# EAGLE library part HEADER-FE-3X8 (library TEABOX-LIB)
FEMALE HEADER
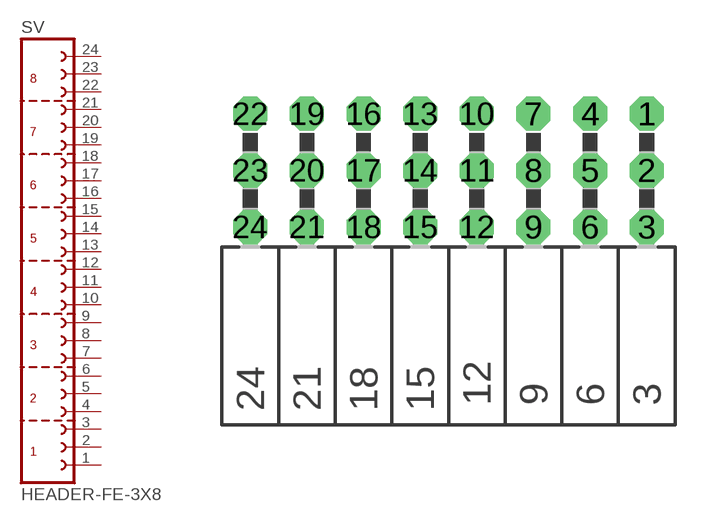
[diagram p19: symbol with the pads of HEADER-FE-8X3; footprint HEADER-FE-8X3]

Designator prefix SV

## HEADER-FE-3X8  [HEADER-FE-8X3]
1  1  pas
2  2  pas
3  3  pas
4  4  pas
5  5  pas
6  6  pas
7  7  pas
8  8  pas
9  9  pas
10  10  pas
11  11  pas
12  12  pas
13  13  pas
14  14  pas
15  15  pas
16  16  pas
17  17  pas
18  18  pas
19  19  pas
20  20  pas
21  21  pas
22  22  pas
23  23  pas
24  24  pas

## Footprint HEADER-FE-8X3 (pad centres in mm)
FEMALE HEADER
drill 1.016 octagon: 1 8.89,3.81; 2 8.89,1.27; 3 8.89,-1.27; 4 6.35,3.81; 5 6.35,1.27; 6 6.35,-1.27; 7 3.81,3.81; 8 3.81,1.27; 9 3.81,-1.27; 10 1.27,3.81; 11 1.27,1.27; 12 1.27,-1.27; 13 -1.27,3.81; 14 -1.27,1.27; 15 -1.27,-1.27; 16 -3.81,3.81; 17 -3.81,1.27; 18 -3.81,-1.27; 19 -6.35,3.81; 20 -6.35,1.27; 21 -6.35,-1.27; 22 -8.89,3.81; 23 -8.89,1.27; 24 -8.89,-1.27